# EAGLE library part 40PINS_FPC-CONNECTOR (library Traficon)
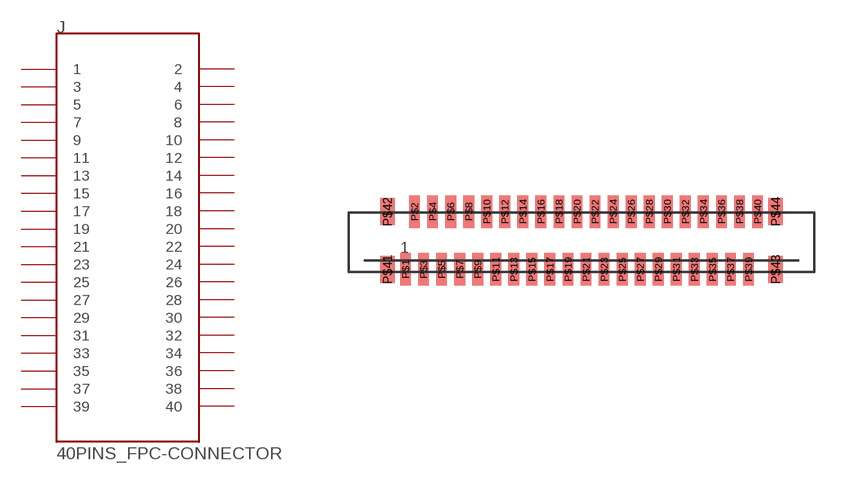
[diagram p225: symbol with the pads of 40POS_VERT_FPC; footprint 40POS_VERT_FPC]

Designator prefix J

## 40PINS_FPC-CONNECTOR  [40POS_VERT_FPC]
P$1  1
P$2  2
P$3  3
P$4  4
P$5  5
P$6  6
P$7  7
P$8  8
P$9  9
P$10  10
P$11  11
P$12  12
P$13  13
P$14  14
P$15  15
P$16  16
P$17  17
P$18  18
P$19  19
P$20  20
P$21  21
P$22  22
P$23  23
P$24  24
P$25  25
P$26  26
P$27  27
P$28  28
P$29  29
P$30  30
P$31  31
P$32  32
P$33  33
P$34  34
P$35  35
P$36  36
P$37  37
P$38  38
P$39  39
P$40  40

## Footprint 40POS_VERT_FPC (pad centres in mm)
smd 0.6 x 1.8: P$1 -9.75,-1.5; P$2 -9.25,1.7; P$3 -8.75,-1.5; P$4 -8.25,1.7; P$5 -7.75,-1.5; P$6 -7.25,1.7; P$7 -6.75,-1.5; P$8 -6.25,1.7; P$9 -5.75,-1.5; P$10 -5.25,1.7; P$11 -4.75,-1.5; P$12 -4.25,1.7; P$13 -3.75,-1.5; P$14 -3.25,1.7; P$15 -2.75,-1.5; P$16 -2.25,1.7; P$17 -1.75,-1.5; P$18 -1.25,1.7; P$19 -0.75,-1.5; P$20 -0.25,1.7; P$21 0.25,-1.5; P$22 0.75,1.7; P$23 1.25,-1.5; P$24 1.75,1.7; P$25 2.25,-1.5; P$26 2.75,1.7; P$27 3.25,-1.5; P$28 3.75,1.7; P$29 4.25,-1.5; P$30 4.75,1.7; P$31 5.25,-1.5; P$32 5.75,1.7; P$33 6.25,-1.5; P$34 6.75,1.7; P$35 7.25,-1.5; P$36 7.75,1.7; P$37 8.25,-1.5; P$38 8.75,1.7; P$39 9.25,-1.5; P$40 9.75,1.7
smd 0.8 x 1.5: P$41 -10.75,-1.5; P$42 -10.75,1.7; P$43 10.75,-1.5; P$44 10.75,1.7